# Altium schematic symbol library DOSA_bricks.SchLib: 1 symbol
Pins are listed as number, name and electrical type; pins without a type are passive.

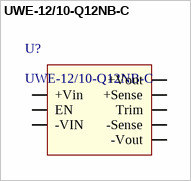
[diagram p0: symbol UWE-12/10-Q12NB-C]

## UWE-12/10-Q12NB-C
designator U?
Isolated Module DC DC Converter 1 Output 12V 10A 9V - 36V Input; Manufacturer: Murata Power Solutions Inc.; Supplier 1: Digi-Key; ComponentLink1URL: https://power.murata.com/data/power/uwe-100-120.pdf; ComponentLink1Description: https://power.murata.com/data/power/uwe-100-120.pdf; Manufacturer Part Number: UWE-12/10-Q12NB-C; Type: Isolated Module; Voltage - Input (Min): 9V; Voltage - Input (Max): 36V; Current - Output (Max): 10A; Supplier Part Number 1: UWE-12/10-Q12NB-C-ND
footprint MURATA_UWE-100-120W with 1/16 (UWE-100-120W with extra 1/16 footprint added)
pins: 1 +Vin (power), 2 EN, 3 -VIN (power), 4 -Vout (power), 5 -Sense, 6 Trim, 7 +Sense, 8 +Vout (power)